# Altium footprint library PcbLib1.PcbLib: 23 footprints (part 1 of 2)
Each footprint in its own frame and in the unit in brackets; x right, y up, seen from the top. Pads: shape width x height; smd on the part's side, far side on the other; paste and mask are expansions set on the pad; w line width, h text height; cw(c..) or ccw(c..) is an arc to the next point about the centre after c.
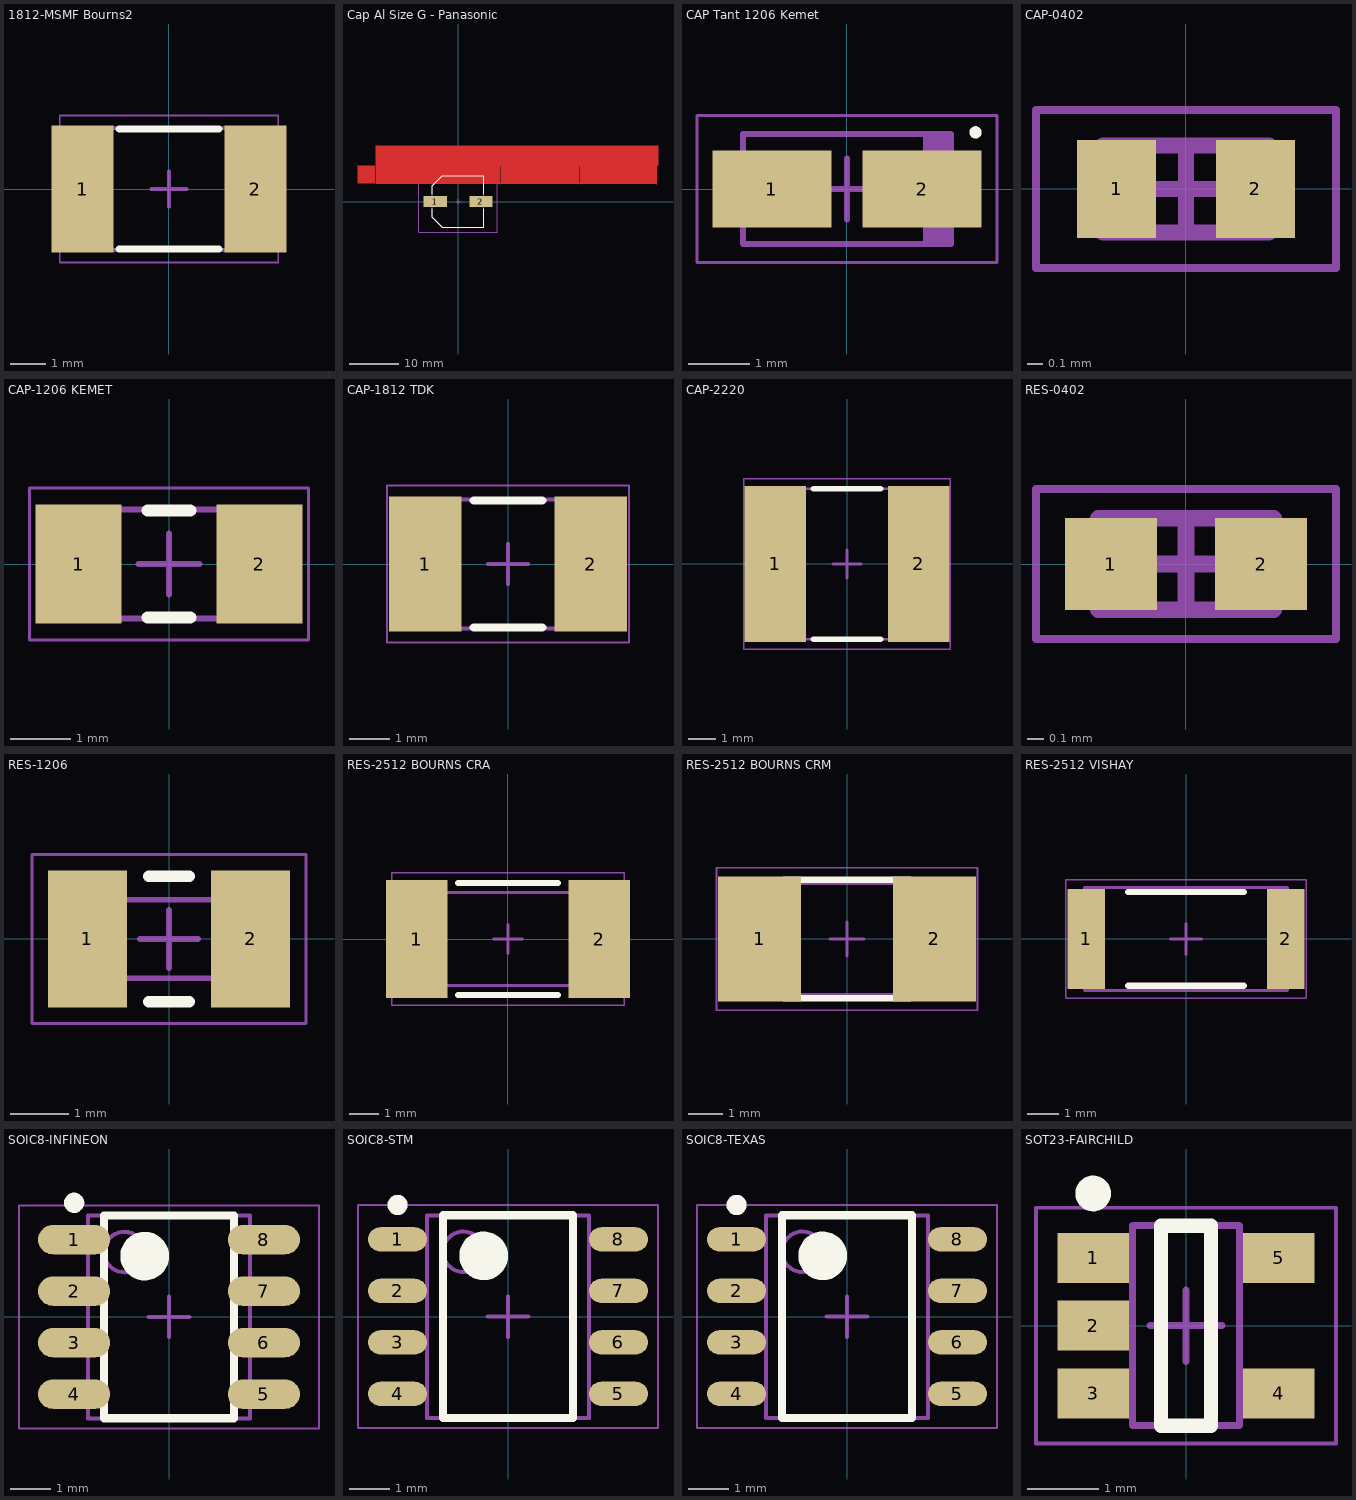
[diagram p0: the footprints below, top view; thin cyan lines are the x and y axes]

## 1812-MSMF Bourns2 [mm] "Chip Diode, 2-Leads, Body 4,60x3,24mm, IPC Medium Density"
height 1.6
pads (2):
  rect 1.73x3.55 smd: 1(-2.415,0) 2(2.415,0)
Top Overlay:
  lines w0.2: -1.4,-1.675 1.4,-1.675 ; -1.4,1.675 1.4,1.675
Mechanical 13:
  lines w0.1: -2.415,-1.705 -2.415,1.705 2.415,1.705 2.415,-1.705 -2.415,-1.705
Mechanical 15:
  lines w0.05: -3.05,-2.05 -3.05,2.05 3.05,2.05 3.05,-2.05 -3.05,-2.05
  lines w0.1: -0.5,0 0.5,0 ; 0,-0.5 0,0.5
3D body "mf-msmf250_16x.stp": height 1.15, standoff 0, extent -2.3,-1.62 2.3,1.62

## Cap Al Size G - Panasonic [mm] "Aluminum Electrolytic Capacitor, Body 10,30x10,30x10,50mm, IPC Low Density"
height 10.5
pads (2):
  rect 4.7x2.3 smd: 1(-4.65,0) 2(4.65,0)
Top Layer:
  region: 24.858,7.32 40.467,7.32 40.467,3.715 24.858,3.715
  region: 8.797,7.32 24.632,7.32 24.632,3.715 8.797,3.715
  region: -13.145,7.32 8.345,7.32 8.345,3.715 -13.145,3.715
  region: 8.345,7.32 8.571,7.32 8.571,3.715 8.345,3.715
  region: -16.764,7.32 -13.145,7.32 -13.145,3.715 -16.764,3.715
  region: -20.383,7.32 -16.99,7.32 -16.99,3.715 -20.383,3.715
  region: 40.467,11.374 40.693,11.374 40.693,7.545 40.467,7.545
  region: 24.858,7.545 40.693,7.545 40.693,7.32 24.858,7.32
  region: 24.858,11.374 40.693,11.374 40.693,11.149 24.858,11.149
  region: 24.858,11.374 40.693,11.374 40.693,7.32 24.858,7.32
  region: 24.632,10.924 24.858,10.924 24.858,7.77 24.632,7.77
  region: 8.797,7.545 24.858,7.545 24.858,7.32 8.797,7.32
  region: 8.797,11.374 24.858,11.374 24.858,11.149 8.797,11.149
  region: 8.797,11.374 24.858,11.374 24.858,7.32 8.797,7.32
  region: 8.571,10.924 8.797,10.924 8.797,7.77 8.571,7.77
  region: -16.764,7.545 8.797,7.545 8.797,7.32 -16.764,7.32
  region: -16.764,11.374 8.797,11.374 8.797,11.149 -16.764,11.149
  region: -16.764,11.374 8.797,11.374 8.797,7.32 -16.764,7.32
  lines w0.226: -16.764,3.715 40.467,3.715 40.467,7.32 40.467,3.49 ; 8.571,3.49 8.571,7.32 ; 24.632,3.49 24.632,7.32
  text "5" at 26.662,4.421 h2.84
  text "1" at 25.311,4.421 h2.84
  text "2" at 9.25,4.421 h2.84
  text "2" at 11.636,4.421 h2.84
  text "S" at 10.284,4.421 h2.84
  text "N" at 8.482,4.421 h2.84
  text "R" at 6.905,4.421 h2.84
  text "U" at 5.103,4.421 h2.84
  text "O" at 3.076,4.421 h2.84
  text "B" at 1.499,4.421 h2.84
  text "F" at -0.528,4.421 h2.84
  text "M" at -2.781,4.421 h2.84
  text "S" at -4.132,4.421 h2.84
  text "M" at -6.385,4.421 h2.84
  text "-" at -7.286,4.421 h2.84
  text "2" at -8.638,4.421 h2.84
  text "1" at -9.989,4.421 h2.84
  text "8" at -11.341,4.421 h2.84
  text "1" at -12.692,4.421 h2.84
  text "s" at 35.223,8.25 h2.84
  text "e" at 33.872,8.25 h2.84
  text "v" at 32.745,8.25 h2.84
  text "i" at 32.069,8.25 h2.84
  text "t" at 31.168,8.25 h2.84
  text "i" at 30.493,8.25 h2.84
  text "m" at 28.465,8.25 h2.84
  text "i" at 27.789,8.25 h2.84
  text "r" at 26.888,8.25 h2.84
  text "P" at 25.537,8.25 h2.84
  text "s" at 13.756,8.25 h2.84
  text "d" at 12.179,8.25 h2.84
  text "a" at 10.828,8.25 h2.84
  text "P" at 9.476,8.25 h2.84
  text "e" at -10.904,8.25 h2.84
  text "m" at -12.932,8.25 h2.84
  text "a" at -14.283,8.25 h2.84
  text "N" at -16.085,8.25 h2.84
Top Overlay:
  lines w0.2: -5.25,-1.45 -5.25,-3.2 -3.2,-5.25 5.25,-5.25 5.25,-1.45 ; -5.25,1.45 -5.25,3.2 -3.2,5.25 5.25,5.25 5.25,1.45
Mechanical 13:
  lines w0.1: -5.25,-3.2 -3.2,-5.25 5.25,-5.25 5.25,5.25 -3.2,5.25 -5.25,3.2 -5.25,-3.2
Mechanical 15:
  lines w0.05: -8,-6.25 -8,6.25 8,6.25 8,-6.25 -8,-6.25
  lines w0.1: -0.5,0 0.5,0 ; 0,-0.5 0,0.5
3D body "SW3dPS-capg.STEP": height 10.41, standoff -0.05, extent -5.65,-5.207 5.65,5.093

## CAP Tant 1206 Kemet [mm] "Molded Capacitor, 2-Leads, Body 3,20x1,60mm, IPC Medium Density"
height 1.8
pads (2):
  rect 1.95x1.25 smd: 1(-1.225,0) 2(1.225,0)
Top Overlay:
  circle w0.1: c2.1,0.925 r0.05
Mechanical 13:
  rectangle: 1.243,-0.9 1.7,0.9
  lines w0.1: -1.7,-0.9 -1.7,0.9 1.7,0.9 1.7,-0.9 -1.7,-0.9
Mechanical 15:
  lines w0.05: -2.45,-1.2 -2.45,1.2 2.45,1.2 2.45,-1.2 -2.45,-1.2
  lines w0.1: -0.5,0 0.5,0 ; 0,-0.5 0,0.5
3D body: height 1.8, standoff 0, extent -1.7,-0.9 1.7,0.9

## CAP-0402 [mm]
height 0.55
pads (2):
  rect 0.5x0.62 smd: 1(-0.44,0) 2(0.44,0)
Mechanical 13:
  lines w0.1: -0.525,-0.275 -0.525,0.275 0.525,0.275 0.525,-0.275 -0.525,-0.275
Mechanical 15:
  lines w0.05: -0.95,-0.5 -0.95,0.5 0.95,0.5 0.95,-0.5 -0.95,-0.5
  lines w0.1: -0.275,0 0.275,0 ; 0,-0.275 0,0.275
3D body: height 0.55, standoff 0, extent -0.275,-0.275 0.275,0.275
3D body: height 0.55, standoff 0, extent -0.525,-0.275 -0.275,0.275
3D body: height 0.55, standoff 0, extent 0.275,-0.275 0.525,0.275

## CAP-1206 KEMET [mm] "Chip Resistor, 2-Leads, Body 3,20x1,60mm, IPC Medium Density"
height 1.75
pads (2):
  rect 1.42x1.96 smd: 1(-1.49,0) 2(1.49,0)
Top Overlay:
  lines w0.2: -0.35,-0.88 0.35,-0.88 ; -0.35,0.88 0.35,0.88
Mechanical 13:
  lines w0.1: -1.7,-0.9 1.7,-0.9 1.7,0.9 -1.7,0.9 -1.7,-0.9
Mechanical 15:
  lines w0.05: -2.3,-1.25 2.3,-1.25 2.3,1.25 -2.3,1.25 -2.3,-1.25
  lines w0.1: -0.5,0 0.5,0 ; 0,-0.5 0,0.5
3D body: height 1.75, standoff 0, extent 1.2,-0.9 1.7,0.9
3D body: height 1.75, standoff 0, extent -1.7,-0.9 -1.2,0.9
3D body: height 1.75, standoff 0, extent -1.2,-0.9 1.2,0.9

## CAP-1812 TDK [mm] "Chip Capacitor, 2-Leads, Body 4,60x3,20mm, IPC Medium Density"
height 3.2
pads (2):
  rect 1.8x3.35 smd: 1(-2.05,0) 2(2.05,0)
Top Overlay:
  lines w0.2: -0.85,-1.575 0.85,-1.575 ; -0.85,1.575 0.85,1.575
Mechanical 13:
  lines w0.1: -2.3,-1.6 -2.3,1.6 2.3,1.6 2.3,-1.6 -2.3,-1.6
Mechanical 15:
  lines w0.05: -3,-1.95 -3,1.95 3,1.95 3,-1.95 -3,-1.95
  lines w0.1: -0.5,0 0.5,0 ; 0,-0.5 0,0.5
3D body: height 3.2, standoff 0, extent -1.3,-1.6 1.3,1.6
3D body: height 3.2, standoff 0, extent -2.3,-1.6 -1.3,1.6
3D body: height 3.2, standoff 0, extent 1.3,-1.6 2.3,1.6

## CAP-2220 [mm] "Chip Capacitor, 2-Leads, Body 5,75x5,00mm, IPC Medium Density"
height 2.5
pads (2):
  rect 2.2x5.6 smd: 1(-2.575,0) 2(2.575,0)
Top Overlay:
  lines w0.2: -1.2,-2.7 1.2,-2.7 ; -1.2,2.7 1.2,2.7
Mechanical 13:
  lines w0.1: -3.1,-2.7 3.1,-2.7 3.1,2.7 -3.1,2.7 -3.1,-2.7
Mechanical 15:
  lines w0.05: -3.7,-3.05 3.7,-3.05 3.7,3.05 -3.7,3.05 -3.7,-3.05
  lines w0.1: -0.5,0 0.5,0 ; 0,-0.5 0,0.5
3D body: height 2.5, standoff 0, extent 2.05,-2.7 3.1,2.7
3D body: height 2.5, standoff 0, extent -3.1,-2.7 -2.05,2.7
3D body: height 2.5, standoff 0, extent -2.05,-2.7 2.05,2.7

## RES-0402 [mm]
height 0.4
pads (2):
  rect 0.55x0.55 smd: 1(-0.45,0) 2(0.45,0)
Mechanical 13:
  lines w0.1: -0.525,-0.275 -0.525,0.275 0.525,0.275 0.525,-0.275 -0.525,-0.275
Mechanical 15:
  lines w0.05: -0.9,-0.45 -0.9,0.45 0.9,0.45 0.9,-0.45 -0.9,-0.45
  lines w0.1: -0.275,0 0.275,0 ; 0,-0.275 0,0.275
3D body: height 0.4, standoff 0, extent -0.325,-0.275 0.325,0.275
3D body: height 0.4, standoff 0, extent -0.525,-0.275 -0.325,0.275
3D body: height 0.4, standoff 0, extent 0.325,-0.275 0.525,0.275

## RES-1206 [mm]
height 0.45
pads (2):
  rect 1.35x2.35 smd: 1(-1.4,0) 2(1.4,0)
Top Overlay:
  lines w0.2: -0.35,-1.075 0.35,-1.075 ; -0.35,1.075 0.35,1.075
Mechanical 13:
  lines w0.1: -1.725,-0.675 -1.725,0.675 1.725,0.675 1.725,-0.675 -1.725,-0.675
Mechanical 15:
  lines w0.05: -2.35,-1.45 -2.35,1.45 2.35,1.45 2.35,-1.45 -2.35,-1.45
  lines w0.1: -0.5,0 0.5,0 ; 0,-0.5 0,0.5
3D body: height 0.45, standoff 0, extent -1.225,-0.675 1.225,0.675
3D body: height 0.45, standoff 0, extent -1.725,-0.675 -1.225,0.675
3D body: height 0.45, standoff 0, extent 1.225,-0.675 1.725,0.675

## RES-2512 BOURNS CRA [mm] "Chip Resistor, 2-Leads, Body 6,45x3,35mm, IPC Medium Density"
height 0.9
pads (2):
  rect 2.1x4 smd: 1(-3.1,0) 2(3.1,0)
Top Overlay:
  lines w0.2: -1.7,-1.9 1.7,-1.9 ; -1.7,1.9 1.7,1.9
Mechanical 13:
  lines w0.1: -3.325,-1.575 3.325,-1.575 3.325,1.575 -3.325,1.575 -3.325,-1.575
Mechanical 15:
  lines w0.05: -3.95,-2.25 3.95,-2.25 3.95,2.25 -3.95,2.25 -3.95,-2.25
  lines w0.1: -0.5,0 0.5,0 ; 0,-0.5 0,0.5
3D body: height 0.9, standoff 0, extent 2.375,-1.575 3.325,1.575
3D body: height 0.9, standoff 0, extent -3.325,-1.575 -2.375,1.575
3D body: height 0.9, standoff 0, extent -2.375,-1.575 2.375,1.575

## RES-2512 BOURNS CRM [mm] "Chip Resistor, 2-Leads, Body 6,30x3,10mm, IPC Medium Density"
height 0.8
pads (2):
  rect 2.45x3.7 smd: 1(-2.575,0) 2(2.575,0)
Top Overlay:
  lines w0.2: -1.85,-1.75 1.85,-1.75 ; -1.85,1.75 1.85,1.75
Mechanical 13:
  lines w0.1: -3.25,-1.65 -3.25,1.65 3.25,1.65 3.25,-1.65 -3.25,-1.65
Mechanical 15:
  lines w0.05: -3.85,-2.1 -3.85,2.1 3.85,2.1 3.85,-2.1 -3.85,-2.1
  lines w0.1: -0.5,0 0.5,0 ; 0,-0.5 0,0.5
3D body: height 0.8, standoff 0, extent -2.65,-1.65 2.65,1.65
3D body: height 0.8, standoff 0, extent -3.25,-1.65 -2.65,1.65
3D body: height 0.8, standoff 0, extent 2.65,-1.65 3.25,1.65

## RES-2512 VISHAY [mm] "Chip Resistor, 2-Leads, Body 6,30x3,15mm, IPC Medium Density"
height 0.7
pads (2):
  rect 1.2x3.2 smd: 1(-3.2,0) 2(3.2,0)
Top Overlay:
  lines w0.2: -1.85,-1.5 1.85,-1.5 ; -1.85,1.5 1.85,1.5
Mechanical 13:
  lines w0.1: -3.25,-1.65 3.25,-1.65 3.25,1.65 -3.25,1.65 -3.25,-1.65
Mechanical 15:
  lines w0.05: -3.85,-1.9 3.85,-1.9 3.85,1.9 -3.85,1.9 -3.85,-1.9
  lines w0.1: -0.5,0 0.5,0 ; 0,-0.5 0,0.5
3D body: height 0.7, standoff 0, extent 2.65,-1.65 3.25,1.65
3D body: height 0.7, standoff 0, extent -3.25,-1.65 -2.65,1.65
3D body: height 0.7, standoff 0, extent -2.65,-1.65 2.65,1.65

## SOIC8-INFINEON [mm] "SOIC, 8-Leads, Body 4,89x3,90mm, Pitch 1,27mm, IPC Medium Density"
height 1.75
pads (8):
  oval 1.78x0.72 smd: 1(-2.34,1.905) 2(-2.34,0.635) 3(-2.34,-0.635) 4(-2.34,-1.905) 5(2.34,-1.905) 6(2.34,-0.635) 7(2.34,0.635) 8(2.34,1.905)
Top Overlay:
  circle w0.25: c-2.34,2.815 r0.125
  circle w0.6: c-0.6,1.5 r0.3
  lines w0.2: -1.6,-2.5 -1.6,2.5 1.6,2.5 1.6,-2.5 -1.6,-2.5
Mechanical 13:
  circle w0.1: c-1.1,1.6 r0.5
  lines w0.1: -2,-2.5 -2,2.5 2,2.5 2,-2.5 -2,-2.5
Mechanical 15:
  lines w0.05: -3.7,-2.75 -3.7,2.75 3.7,2.75 3.7,-2.75 -3.7,-2.75
  lines w0.1: -0.5,0 0.5,0 ; 0,-0.5 0,0.5
3D body: height 1.75, standoff 0.1, extent -2,-2.5 2,2.5

## SOIC8-STM [mm] "SOIC, 8-Leads, Body 4,90x3,90mm, Pitch 1,27mm, IPC Medium Density"
height 1.75
pads (8):
  oval 1.45x0.6 smd: 1(-2.725,1.905) 2(-2.725,0.635) 3(-2.725,-0.635) 4(-2.725,-1.905) 5(2.725,-1.905) 6(2.725,-0.635) 7(2.725,0.635) 8(2.725,1.905)
Top Overlay:
  circle w0.25: c-2.725,2.755 r0.125
  circle w0.6: c-0.6,1.5 r0.3
  lines w0.2: -1.6,-2.5 -1.6,2.5 1.6,2.5 1.6,-2.5 -1.6,-2.5
Mechanical 13:
  circle w0.1: c-1.1,1.6 r0.5
  lines w0.1: -2,-2.5 -2,2.5 2,2.5 2,-2.5 -2,-2.5
Mechanical 15:
  lines w0.05: -3.7,-2.75 -3.7,2.75 3.7,2.75 3.7,-2.75 -3.7,-2.75
  lines w0.1: -0.5,0 0.5,0 ; 0,-0.5 0,0.5
3D body: height 1.75, standoff 0.1, extent -2,-2.5 2,2.5

## SOIC8-TEXAS [mm] "SOIC, 8-Leads, Body 4,90x3,90mm, Pitch 1,27mm, IPC Medium Density"
height 1.75
pads (8):
  oval 1.45x0.6 smd: 1(-2.725,1.905) 2(-2.725,0.635) 3(-2.725,-0.635) 4(-2.725,-1.905) 5(2.725,-1.905) 6(2.725,-0.635) 7(2.725,0.635) 8(2.725,1.905)
Top Overlay:
  circle w0.25: c-2.725,2.755 r0.125
  circle w0.6: c-0.6,1.5 r0.3
  lines w0.2: -1.6,-2.5 -1.6,2.5 1.6,2.5 1.6,-2.5 -1.6,-2.5
Mechanical 13:
  circle w0.1: c-1.1,1.6 r0.5
  lines w0.1: -2,-2.5 -2,2.5 2,2.5 2,-2.5 -2,-2.5
Mechanical 15:
  lines w0.05: -3.7,-2.75 -3.7,2.75 3.7,2.75 3.7,-2.75 -3.7,-2.75
  lines w0.1: -0.5,0 0.5,0 ; 0,-0.5 0,0.5
3D body: height 1.75, standoff 0.1, extent -2,-2.5 2,2.5

## SOT23-FAIRCHILD [mm] "SOT23, 5-Leads, Body 2,90x2,80mm, Pitch 0,95mm, IPC Medium Density"
height 1.45
pads (5):
  rect 1x0.7 smd: 1(-1.3,0.95) 2(-1.3,0) 3(-1.3,-0.95) 4(1.3,-0.95) 5(1.3,0.95)
Top Overlay:
  circle w0.25: c-1.3,1.85 r0.125
  lines w0.2: -0.35,-1.4 0.35,-1.4 0.35,1.4 -0.35,1.4 -0.35,-1.4
Mechanical 13:
  lines w0.1: -0.75,-1.4 -0.75,1.4 0.75,1.4 0.75,-1.4 -0.75,-1.4
Mechanical 15:
  lines w0.05: -2.1,-1.65 -2.1,1.65 2.1,1.65 2.1,-1.65 -2.1,-1.65
  lines w0.1: -0.5,0 0.5,0 ; 0,-0.5 0,0.5
3D body: height 1.45, standoff 0.05, extent -0.75,-1.4 0.75,1.4